# Altium footprint library XT90.PcbLib: 1 footprints
Each footprint in its own frame and in the unit in brackets; x right, y up, seen from the top. Pads: shape width x height; smd on the part's side, far side on the other; paste and mask are expansions set on the pad; w line width, h text height; cw(c..) or ccw(c..) is an arc to the next point about the centre after c.
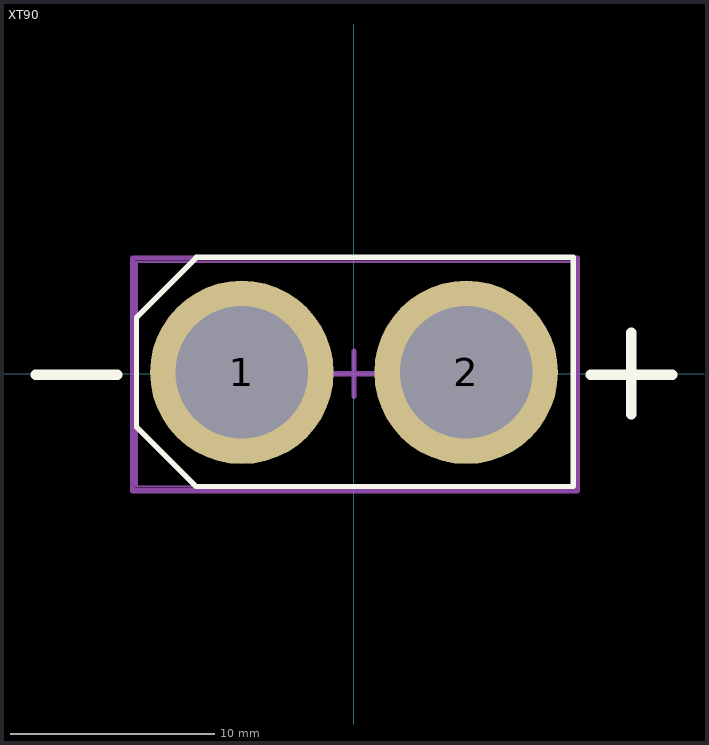
[diagram p0: the footprint, top view; thin cyan lines are the x and y axes]

## XT90 [mm]
pads (2):
  round 9 hole 6.5: 1(-5.494,0.059) 2(5.506,0.059)
Top Overlay:
  lines w0.254: -7.734,5.659 -10.65,2.742 -10.65,-2.625 -7.734,-5.541 10.756,-5.541 10.756,5.7 -7.725,5.7
  lines w0.5: -15.592,-0.058 -11.592,-0.058 ; 11.604,-0.058 15.604,-0.058 ; 13.593,-2 13.593,2
Bottom Assembly:
  lines w0.1: -10.644,-5.541 -10.644,5.459 10.756,5.459 10.756,-5.541 -10.644,-5.541
  text "'.Designator'" at -2.869,4.194 h0.5
Top Courtyard:
  lines w0.254: -1.109,-0.006 1.121,-0.006 ; 0.006,-1.121 0.006,1.109 ; -10.844,-5.741 10.956,-5.741 10.956,5.659 -10.844,5.659 -10.844,-5.741
3D body "xt90_male_asm.stp": height 20.7, standoff -5.5, extent -10.7,-5.5 10.7,5.5